# Altium integrated library Rosenberger Longwipe-SMP.IntLib: 2 symbols
Pins are listed as number, name and electrical type; pins without a type are passive.

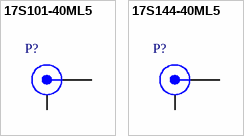
[diagram p0: symbols 17S101-40ML5 to 17S144-40ML5]

## 17S101-40ML5
designator P?
Longwipe-SMP Straight Plug, Limited Detent, Small, Up to 6 GHz, -65 to 155 degC; PartNumber: 17S101-40ML5; Design Note: Footprint in library is a generic example - only application specific footprint delivers High Performance; DatasheetVersion: a00; PackageVersion: a00; PackageReference: 17S101-40ML5; PackageDescription: Longwipe-SMP Straight Plug, 6.00 x 5.00 x 4.10 mm; Detention force: limited detent; Mounting Technology: Surface Mount; Lock-in Range: small; ComponentLink1Description: Manufacturer URL; ComponentLink1URL: http://www.rosenberger.de; ComponentLink2Description: Datasheet; ComponentLink2URL: http://rosenberger.de/ok/images/documents/db/17S101-40ML5.pdf; ComponentLink3Description: Package Specification; ComponentLink3URL: http://rosenberger.de/ok/images/documents/db/17S101-40ML5.pdf; ComponentLink4Description: Series Overview / Design Note; ComponentLink4URL: http://rosenberger.de/ok/images/documents/spez/17.pdf; ComponentLink5Description: Webshop / RFQ; ComponentLink5URL: http://www.rosenberger.com/en/contact/sales/
footprint ROS-17S101-40ML5_V (Longwipe-SMP Straight Plug, 6.00x5.00x4.10mm, Rosenberger Recommended)
pins: 1, MP

## 17S144-40ML5
designator P?
Longwipe-SMP Straight Plug, Wide Catching Range, Smooth Bore, Catchers-Mitt, Up to 6 GHz, -65 to 155 degC; PartNumber: 17S144-40ML5; Design Note: Footprint in library is a generic example - only application specific footprint delivers High Performance; DatasheetVersion: d00; PackageVersion: d00; PackageReference: 17S144-40ML5; PackageDescription: Longwipe-SMP Straight Plug, 6.474 x 6.00 x 4.60 mm; Detention force: smooth bore; Mounting Technology: Surface Mount; Lock-in Range: catchers-mitt; ComponentLink1Description: Manufacturer URL; ComponentLink1URL: http://www.rosenberger.de; ComponentLink2Description: Datasheet; ComponentLink2URL: http://rosenberger.de/ok/images/documents/db/17S144-40ML5.pdf; ComponentLink3Description: Package Specification; ComponentLink3URL: http://rosenberger.de/ok/images/documents/db/17S144-40ML5.pdf; ComponentLink4Description: Series Overview / Design Note; ComponentLink4URL: http://rosenberger.de/ok/images/documents/spez/17.pdf; ComponentLink5Description: Webshop / RFQ; ComponentLink5URL: http://www.rosenberger.com/en/contact/sales/
footprint ROS-17S144-40ML5_V (Longwipe-SMP Straight Plug, 6.474x6.00x4.60mm, Rosenberger Recommended)
pins: 1, MP